# Altium schematic symbol library C2012X6S1C106K125AC.SchLib: 1 symbol
Pins are listed as number, name and electrical type; pins without a type are passive.

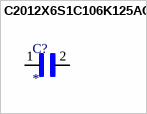
[diagram p0: symbol C2012X6S1C106K125AC]

## C2012X6S1C106K125AC
designator C?
C Series 0805 10 uF 16 V Â±10 % Tolerance X6S SMT Multilayer Ceramic Capacitor; MP: C2012X6S1C106K125AC; MF: TDK; SnapEDA_Link: https://www.snapeda.com/parts/C2012X6S1C106K125AC/TDK-Lambda+Americas+Inc/view-part/?ref=snap; Check_prices: https://www.snapeda.com/parts/C2012X6S1C106K125AC/TDK-Lambda+Americas+Inc/view-part/?ref=eda; Value: *; Purchase-URL: https://pricing.snapeda.com/search/part/C2012X6S1C106K125AC/?ref=eda; Package: 2012 TDK
footprint CAPC1005X55N
pins: 1, 2